# EAGLE library part LTC3127 (library X893)
LTC3127 <http://www.linear.com/product/LTC3127>
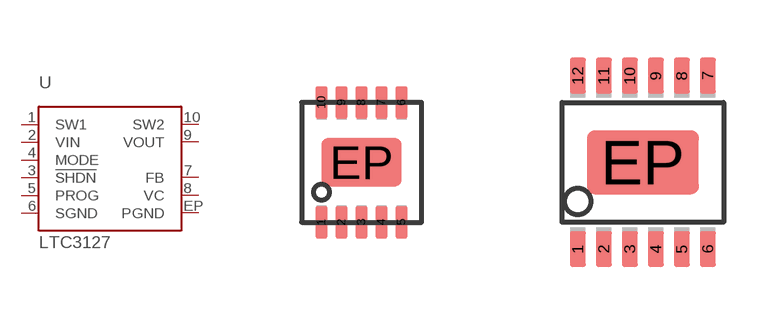
[diagram p237: symbol with the pads of DFN10-0.5; footprints DFN10-0.5, MSOP12-EP]

Designator prefix U

## LTC3127EDD  [DFN10-0.5]
1  SW1
2  VIN
3  !SHDN
4  MODE
5  PROG
6  SGND
7  FB
8  VC
9  VOUT
10  SW2
EP  PGND

## LTC3127EMSE  [MSOP12-EP]
2  SW1
3  VIN
4  !SHDN
5  MODE
6  PROG
7  SGND
8  FB
9  VC
10  VOUT
11  SW2
EP  PGND

## Footprint DFN10-0.5 (pad centres in mm)
smd 0.3 x 0.8: 1 -1,-1.5; 2 -0.5,-1.5; 3 0,-1.5; 4 0.5,-1.5; 5 1,-1.5; 6 1,1.5; 7 0.5,1.5; 8 0,1.5; 9 -0.5,1.5; 10 -1,1.5
smd 2 x 1.2: EP 0,0

## Footprint MSOP12-EP (pad centres in mm)
smd 0.4 x 0.89: 1 -1.625,-2.17; 2 -0.975,-2.17; 3 -0.325,-2.17; 4 0.325,-2.17; 5 0.975,-2.17; 6 1.625,-2.17; 7 1.625,2.17; 8 0.975,2.17; 9 0.325,2.17; 10 -0.325,2.17; 11 -0.975,2.17; 12 -1.625,2.17
smd 2.8 x 1.6: EP 0,0